# Altium schematic symbol library USB.Schlib: 3 symbols
Pins are listed as number, name and electrical type; pins without a type are passive.

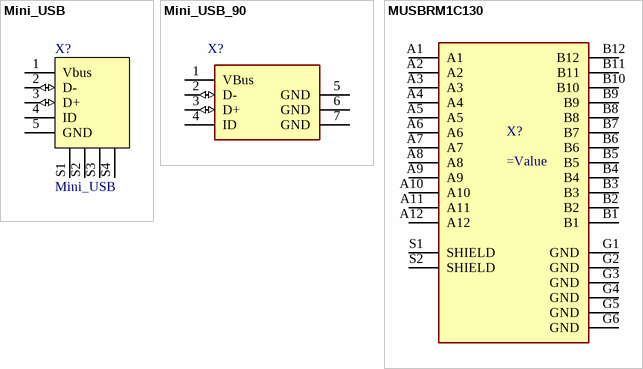
[diagram p0: symbols Mini_USB to MUSBRM1C130]

## Mini_USB
designator X?
pins: 1 Vbus (power), 2 D- (io), 3 D+ (io), 4 ID, 5 GND (power), S1, S2, S3, S4

## Mini_USB_90
designator X?
pins: 1 VBus, 2 D- (io), 3 D+ (io), 4 ID, 5 GND, 6 GND, 7 GND

## MUSBRM1C130
designator X?
USB-C (USB TYPE-C) Receptacle Connector 24 Position Panel Mount, Through Hole, Right Angle
pins: A1, A2, A3, A4, A5, A6, A7, A8, A9, A10, A11, A12, B1, B2, B3, B4, B5, B6, B7, B8, B9, B10, B11, B12, G1 GND (power), G2 GND (power), G3 GND (power), G4 GND (power), G5 GND (power), G6 GND (power), S1 SHIELD, S2 SHIELD